# EAGLE library part 755-BD6211F-E2 (library mouser)
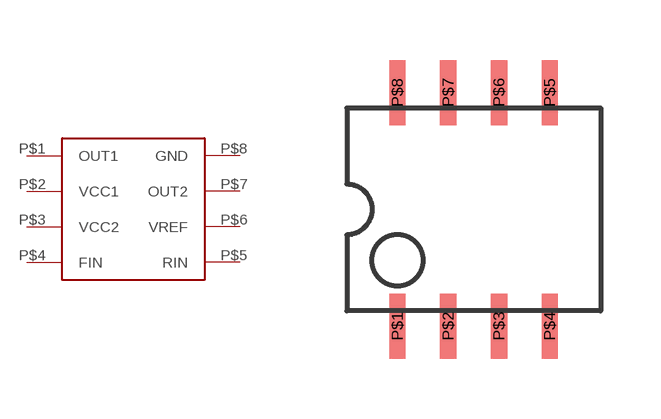
[diagram p4: symbol with the pads of 755-BD6211F-E2_DIM; footprint 755-BD6211F-E2_DIM]

Designator prefix -

## 755-BD6211F-E2  [755-BD6211F-E2_DIM]
P$1  OUT1
P$2  VCC1
P$3  VCC2
P$4  FIN
P$5  RIN
P$6  VREF
P$7  OUT2
P$8  GND

## Footprint 755-BD6211F-E2_DIM (pad centres in mm)
smd 0.406 x 1.626: P$1 -1.27,-2.921; P$2 0,-2.921; P$3 1.27,-2.921; P$4 2.54,-2.921; P$5 2.54,2.921; P$6 1.27,2.921; P$7 0,2.921; P$8 -1.27,2.921